# EAGLE library part RT7251A (library vreg-linear)
C REG BUCK ADJ 1.5A
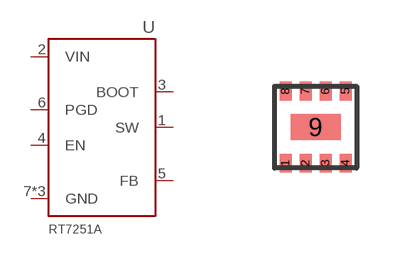
[diagram p6: symbol with the pads of WFDFN8-EP; footprint WFDFN8-EP]

Designator prefix U

## RT7251A (DIGIKEY: 1028-1088-1-ND; MFR: Richtek USA Inc.; MPN: RT7251AZQW; P1I: o)  [WFDFN8-EP]
1  SW
2  VIN
3  BOOT
4  EN
5  FB
6  PGD
7  GND
8  GND
9  GND

## Footprint WFDFN8-EP (pad centres in mm)
smd 0.3 x 0.47: 1 -0.75,-0.9; 2 -0.25,-0.9; 3 0.25,-0.9; 4 0.75,-0.9; 5 0.75,0.9; 6 0.25,0.9; 7 -0.25,0.9; 8 -0.75,0.9
smd 1.25 x 0.65: 9 0,0